# EAGLE library part PINHD-2X5 (library JLB6_Connec)
Pin header male 2x5 2.54mm et 1.27mm
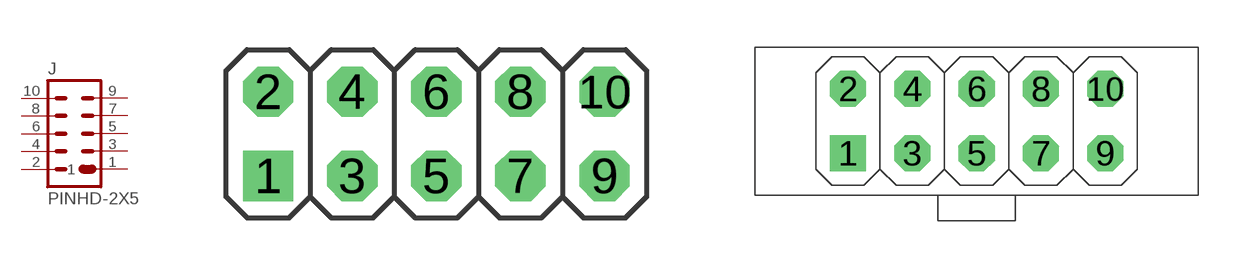
[diagram p27: symbol with the pads of 2X05; footprints 2X05, 2X5-75]

Designator prefix J

## PINHD-2X5NORMAL  [2X05]
1  1  pas
2  2  pas
3  3  pas
4  4  pas
5  5  pas
6  6  pas
7  7  pas
8  8  pas
9  9  pas
10  10  pas

## PINHD-2X5M2  [2X5-75]
Pads as for 2X05

## PINHD-2X5F  [2X05-F]
Pads as for 2X05

## PINHD-2X5M1  [ML10-127]
Pads as for 2X05

## PINHD-2X5S  [ML10-127-SMD]
Pads as for 2X05

## Footprint 2X05 (pad centres in mm)
drill 1.016 square: 1 -5.08,-1.27
drill 1.016 octagon: 2 -5.08,1.27; 3 -2.54,-1.27; 4 -2.54,1.27; 5 0,-1.27; 6 0,1.27; 7 2.54,-1.27; 8 2.54,1.27; 9 5.08,-1.27; 10 5.08,1.27

## Footprint 2X5-75 (pad centres in mm)
drill 0.914 square: 1 -5.08,-1.27
drill 0.914 octagon: 2 -5.08,1.27; 3 -2.54,-1.27; 4 -2.54,1.27; 5 0,-1.27; 6 0,1.27; 7 2.54,-1.27; 8 2.54,1.27; 9 5.08,-1.27; 10 5.08,1.27

## Footprint 2X05-F (pad centres in mm)
drill 1.016 square: 1 0,0
drill 1.016 octagon: 2 0,2.54; 3 2.54,0; 4 2.54,2.54; 5 5.08,0; 6 5.08,2.54; 7 7.62,0; 8 7.62,2.54; 9 10.16,0; 10 10.16,2.54

## Footprint ML10-127 (pad centres in mm)
drill 0.65 pad 1.016 square: 1 -2.54,-0.635
drill 0.65 pad 1.016 octagon: 2 -2.54,0.635; 3 -1.27,-0.635; 4 -1.27,0.635; 5 0,-0.635; 6 0,0.635; 7 1.27,-0.635; 8 1.27,0.635; 9 2.54,-0.635; 10 2.54,0.635

## Footprint ML10-127-SMD (pad centres in mm)
smd 0.737 x 2.591: 1 -2.54,-2.032; 2 -2.54,2.032; 3 -1.27,-2.032; 4 -1.27,2.032; 5 0,-2.032; 6 0,2.032; 7 1.27,-2.032; 8 1.27,2.032; 9 2.54,-2.032; 10 2.54,2.032